# Altium footprint library SnapEDApcb.PcbLib: 1 footprints
Each footprint in its own frame and in the unit in brackets; x right, y up, seen from the top. Pads: shape width x height; smd on the part's side, far side on the other; paste and mask are expansions set on the pad; w line width, h text height; cw(c..) or ccw(c..) is an arc to the next point about the centre after c.
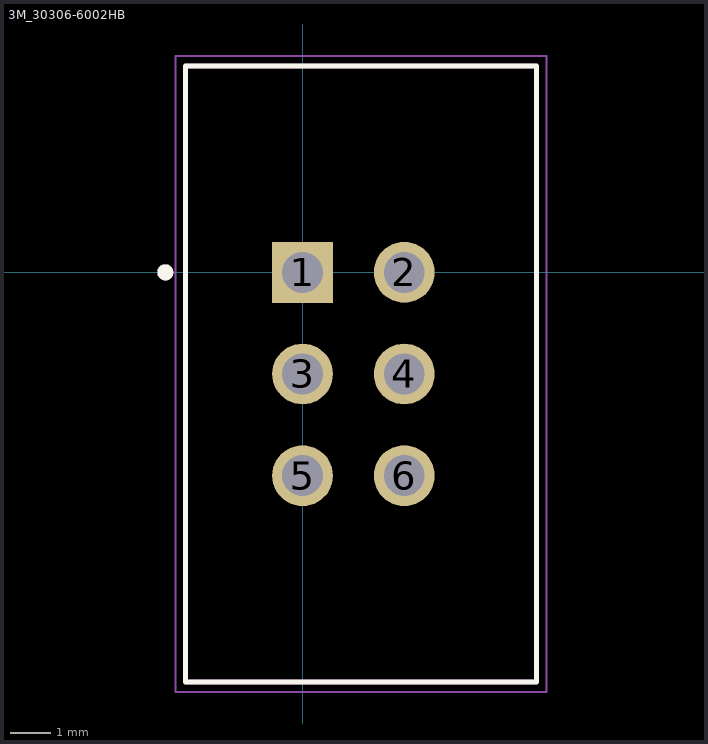
[diagram p0: the footprint, top view; thin cyan lines are the x and y axes]

## 3M_30306-6002HB [mm]
pads (6):
  rect 1.52x1.52 hole 1.02: 1(0,0)
  round 1.52 hole 1.02: 2(2.54,0) 3(0,-2.54) 4(2.54,-2.54) 5(0,-5.08) 6(2.54,-5.08)
Top Overlay:
  circle w0.2: c-3.43,0 r0.1
  lines w0.127: -2.93,-10.24 5.85,-10.24 5.85,5.16 -2.93,5.16 -2.93,-10.24
Mechanical 13:
  circle w0.2: c-3.43,0 r0.1
  lines w0.127: -2.93,-10.24 5.85,-10.24 5.85,5.16 -2.93,5.16 -2.93,-10.24
Mechanical 15:
  lines w0.05: -3.18,-10.49 6.1,-10.49 6.1,5.41 -3.18,5.41 -3.18,-10.49